# Altium schematic symbol library ina226aidgst.SchLib: 1 symbol
Pins are listed as number, name and electrical type; pins without a type are passive.

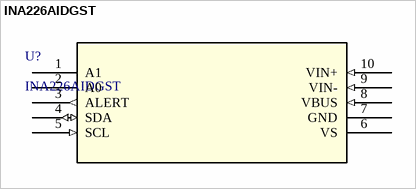
[diagram p0: symbol INA226AIDGST]

## INA226AIDGST
designator U?
36V, 16-bit, ultra-precise i2c output current/voltage/power monitor w/alert 10-VSSOP -40 to 125; Manufacturer_Name: Texas Instruments; Copyright: Copyright (C) 2025 Ultra Librarian. All rights reserved.; Manufacturer_Part_Number: INA226AIDGST; RefDes: RefDes; Type: Type
footprint DGS10
pins: 1 A1, 2 A0, 3 ALERT (out), 4 SDA (io), 5 SCL (in), 6 VS (power), 7 GND (power), 8 VBUS (in), 9 VIN- (in), 10 VIN+ (in)